# EAGLE library part PE4259 (library OSSI)
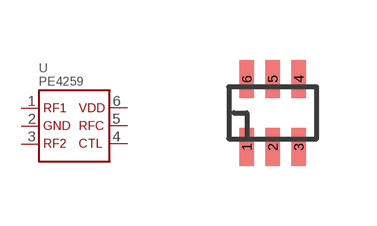
[diagram p61: symbol with the pads of SC70-6; footprint SC70-6]

Designator prefix U

## PE4259  [SC70-6]
1  P$1
2  P$2
3  P$3
4  P$4
5  P$5
6  P$6

## Footprint SC70-6 (pad centres in mm)
smd 0.36 x 0.95: 1 -0.65,-0.85; 2 0,-0.85; 3 0.65,-0.85; 4 0.65,0.85; 5 0,0.85; 6 -0.65,0.85